# Altium schematic symbol library PNP.Schlib: 1 symbol
Pins are listed as number, name and electrical type; pins without a type are passive.

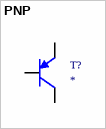
[diagram p0: symbol PNP]

## PNP
designator T?
PNP Transistor
pins: B, C, E